# Altium footprint library Components.PcbLib: 10 footprints
Each footprint in its own frame and in the unit in brackets; x right, y up, seen from the top. Pads: shape width x height; smd on the part's side, far side on the other; paste and mask are expansions set on the pad; w line width, h text height; cw(c..) or ccw(c..) is an arc to the next point about the centre after c.
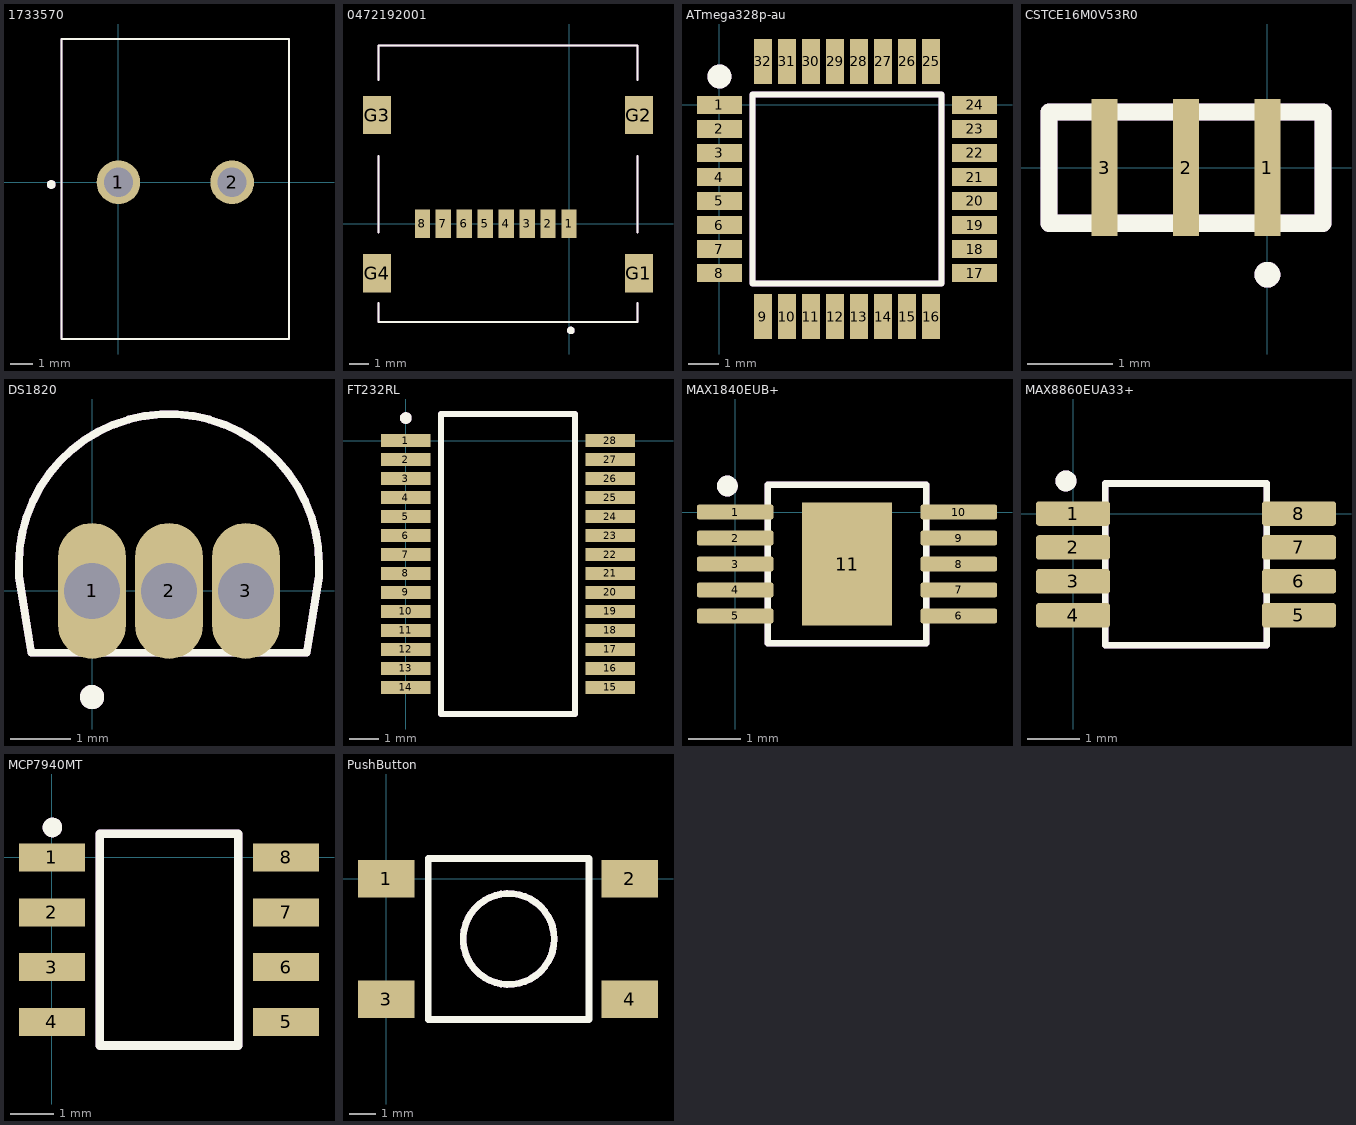
[diagram p0: the footprints below, top view; thin cyan lines are the x and y axes]

## 1733570 [mm] "Supply Connector"
pads (2):
  round 1.95 hole 1.3: 1(0,0) 2(5.08,0)
Top Overlay:
  lines w0.1: -2.54,-7 7.62,-7 7.62,6.4 -2.54,6.4 -2.54,-7
  lines w0.2: -3,-0.2 ccw(c-3,-0.1) -3,0 ccw(c-3,-0.1) -3,-0.2
Mechanical 29:
  lines w0.1: -2.54,-7 7.62,-7 7.62,6.4 -2.54,6.4 -2.54,-7
  lines w0.2: -3,-0.2 ccw(c-3,-0.1) -3,0 ccw(c-3,-0.1) -3,-0.2

## 0472192001 [mm] "Micro SD Card reader"
pads (12):
  rect 0.8x1.5 smd: 1(0,0) 2(-1.1,0) 3(-2.2,0) 4(-3.3,0) 5(-4.4,0) 6(-5.5,0) 7(-6.6,0) 8(-7.7,0)
  rect 1.45x2 smd: G1(3.67,-2.6) G2(3.67,5.7) G3(-10.08,5.7) G4(-10.08,-2.6)
Top Overlay:
  lines w0.1: -10.005,-4.15 -10.005,-5.15 3.595,-5.15 3.595,-4.15 ; -10.005,-0.45 -10.005,3.55 ; -10.005,7.55 -10.005,9.35 3.595,9.35 3.595,7.55 ; 3.595,-0.45 3.595,3.55
  lines w0.2: -0.005,-5.6 cw(c0.095,-5.6) 0.195,-5.6 cw(c0.095,-5.6) -0.005,-5.6
Mechanical 29:
  lines w0.1: -10.005,-4.15 -10.005,-5.15 3.595,-5.15 3.595,-4.15 ; -10.005,-0.45 -10.005,3.55 ; -10.005,7.55 -10.005,9.35 3.595,9.35 3.595,7.55 ; 3.595,-0.45 3.595,3.55
  lines w0.2: -0.005,-5.6 cw(c0.095,-5.6) 0.195,-5.6 cw(c0.095,-5.6) -0.005,-5.6

## ATmega328p-au [mm] "Microcontroller"
pads (32):
  rect 1.5x0.6 smd: 1(0,0) 2(0,-0.8) 3(0,-1.6) 4(0,-2.4) 5(0,-3.2) 6(0,-4) 7(0,-4.8) 8(0,-5.6) 17(8.5,-5.6) 18(8.5,-4.8) 19(8.5,-4) 20(8.5,-3.2) 21(8.5,-2.4) 22(8.5,-1.6) 23(8.5,-0.8) 24(8.5,0)
  rect 0.6x1.5 smd: 9(1.45,-7.05) 10(2.25,-7.05) 11(3.05,-7.05) 12(3.85,-7.05) 13(4.65,-7.05) 14(5.45,-7.05) 15(6.25,-7.05) 16(7.05,-7.05) 25(7.05,1.45) 26(6.25,1.45) 27(5.45,1.45) 28(4.65,1.45) 29(3.85,1.45) 30(3.05,1.45) 31(2.25,1.45) 32(1.45,1.45)
Top Overlay:
  circle w0.4: c0,0.95 r0.2
  lines w0.2: 1.1,-5.95 7.4,-5.95 7.4,0.35 1.1,0.35 1.1,-5.95
Mechanical 29:
  circle w0.4: c0,0.95 r0.2
  lines w0.2: 1.1,-5.95 7.4,-5.95 7.4,0.35 1.1,0.35 1.1,-5.95
3D body "ATMEGA328P-AU.stp": height 1.2, standoff 0, extent -0.25,-7.3 8.75,1.7

## CSTCE16M0V53R0 [mm] "Ceramic Resonator 16Mhz 15pF"
pads (3):
  rect 0.3x1.6 smd: 1(0,0) 2(-0.95,0) 3(-1.9,0)
Top Overlay:
  lines w0.2: 0,-1.3 cw(c0,-1.25) 0,-1.2 ; 0,-1.3 ccw(c0,-1.25) 0,-1.2 ; 0,-1.3 cw(c0,-1.25) 0,-1.2 ; -2.55,-0.65 -2.55,0.65 0.65,0.65 0.65,-0.65 -2.55,-0.65
Mechanical 29:
  lines w0.2: 0,-1.3 cw(c0,-1.25) 0,-1.2 ; 0,-1.3 ccw(c0,-1.25) 0,-1.2 ; 0,-1.3 cw(c0,-1.25) 0,-1.2 ; -2.55,-0.65 -2.55,0.65 0.65,0.65 0.65,-0.65 -2.55,-0.65

## DS1820 [mm] "Temperature Sensor"
pads (3):
  oval 1.12x2.24 hole 0.93: 1(0,0) 2(1.27,0) 3(2.54,0)
Top Overlay:
  circle w0.2: c0,-1.75 r0.1
  lines w0.127: -1.205,0.24 -1.205,0.445 cw(c1.27,0.445) 3.745,0.445 3.745,0.24 3.54,-1.02 -1,-1.02 -1.205,0.24
Mechanical 29:
  circle w0.2: c0,-1.75 r0.1
  lines w0.127: -1.205,0.24 -1.205,0.445 cw(c1.27,0.445) 3.745,0.445 3.745,0.24 3.54,-1.02 -1,-1.02 -1.205,0.24
3D body "step_temp.STEP": height 20.45, standoff 0, extent -1.015,-1.169 3.555,2.45

## FT232RL [mm] "USB to UART IC"
pads (28):
  rect 1.7x0.45 smd: 1(0,0) 2(0,-0.65) 3(0,-1.3) 4(0,-1.95) 5(0,-2.6) 6(0,-3.25) 7(0,-3.9) 8(0,-4.55) 9(0,-5.2) 10(0,-5.85) 11(0,-6.5) 12(0,-7.15) 13(0,-7.8) 14(0,-8.45) 15(7,-8.45) 16(7,-7.8) 17(7,-7.15) 18(7,-6.5) 19(7,-5.85) 20(7,-5.2) 21(7,-4.55) 22(7,-3.9) 23(7,-3.25) 24(7,-2.6) 25(7,-1.95) 26(7,-1.3) 27(7,-0.65) 28(7,0)
Top Overlay:
  circle w0.2: c0,0.775 r0.1
  lines w0.2: 1.2,-9.363 1.2,0.913 5.8,0.913 5.8,-9.363 1.2,-9.363
Mechanical 29:
  circle w0.2: c0,0.775 r0.1
  lines w0.2: 1.2,-9.363 1.2,0.913 5.8,0.913 5.8,-9.363 1.2,-9.363
3D body "FT232RL.stp": height 2, standoff 0, extent -0.387,-9.363 7.388,0.913

## MAX1840EUB+ [mm] "Level Translator"
pads (11):
  rrect25% 1.47x0.28 smd: 1(0,0) 2(0,-0.5) 3(0,-1) 4(0,-1.5) 5(0,-2) 6(4.3,-2) 7(4.3,-1.5) 8(4.3,-1) 9(4.3,-0.5) 10(4.3,0)
  rect 1.728x2.363 smd paste-2: 11(2.15,-1)
Top Overlay:
  circle w0.2: c-0.15,0.5 r0.1
  lines w0.127: 0.625,-2.525 0.625,0.525 3.675,0.525 3.675,-2.525 0.625,-2.525
Top Paste:
  region: 2.055,-1.985 1.485,-1.985 1.485,-1.095 2.055,-1.095
  region: 2.815,-1.985 2.245,-1.985 2.245,-1.095 2.815,-1.095
  region: 2.815,-0.905 2.245,-0.905 2.245,-0.015 2.815,-0.015
  region: 2.055,-0.905 1.485,-0.905 1.485,-0.015 2.055,-0.015
Mechanical 29:
  circle w0.2: c-0.15,0.5 r0.1
  lines w0.127: 0.625,-2.525 0.625,0.525 3.675,0.525 3.675,-2.525 0.625,-2.525
3D body "step_temp.STEP": height 1.1, standoff 0, extent -0.3,-2.5 4.6,0.5

## MAX8860EUA33+ [mm] "LDO"
pads (8):
  rrect25% 1.42x0.47 smd: 1(0,0) 2(0,-0.65) 3(0,-1.3) 4(0,-1.95) 5(4.33,-1.95) 6(4.33,-1.3) 7(4.33,-0.65) 8(4.33,0)
Top Overlay:
  circle w0.2: c-0.135,0.625 r0.1
  lines w0.127: 0.615,-2.525 3.715,-2.525 3.715,0.575 0.615,0.575 0.615,-2.525
Mechanical 29:
  circle w0.2: c-0.135,0.625 r0.1
  lines w0.127: 0.615,-2.525 3.715,-2.525 3.715,0.575 0.615,0.575 0.615,-2.525

## MCP7940MT [mm] "Real Time Clock"
pads (8):
  rect 1.525x0.65 smd: 1(0,0) 2(0,-1.27) 3(0,-2.54) 4(0,-3.81) 5(5.424,-3.81) 6(5.424,-2.54) 7(5.424,-1.27) 8(5.424,0)
Top Overlay:
  circle w0.254: c0.012,0.695 r0.1
  lines w0.2: 1.112,-4.355 4.312,-4.355 4.312,0.545 1.112,0.545 1.112,-4.355
Mechanical 29:
  circle w0.254: c0.012,0.695 r0.1
  lines w0.2: 1.112,-4.355 4.312,-4.355 4.312,0.545 1.112,0.545 1.112,-4.355
3D body "NE555DR.stp": height 1.75, standoff 0, extent -0.288,-4.355 5.712,0.545

## PushButton [mm] "Tactile Switch"
pads (4):
  rect 2.1x1.4 smd: 1(0,0) 2(9.1,0) 3(0,-4.5) 4(9.1,-4.5)
Top Overlay:
  circle w0.254: c4.575,-2.25 r1.699
  lines w0.254: 1.575,-5.25 7.575,-5.25 ; 1.575,-5.25 1.575,0.75 ; 1.575,-5.25 7.575,-5.25 ; 1.575,-5.25 1.575,0.75 ; 1.575,0.75 7.575,0.75 ; 1.575,0.75 7.575,0.75 ; 7.575,-5.25 7.575,0.75 ; 7.575,-5.25 7.575,0.75
Mechanical 29:
  circle w0.254: c4.575,-2.25 r1.699